# Altium footprint library SOP.PcbLib: 58 footprints (part 2 of 4)
Each footprint in its own frame and in the unit in brackets; x right, y up, seen from the top. Pads: shape width x height; smd on the part's side, far side on the other; paste and mask are expansions set on the pad; w line width, h text height; cw(c..) or ccw(c..) is an arc to the next point about the centre after c.
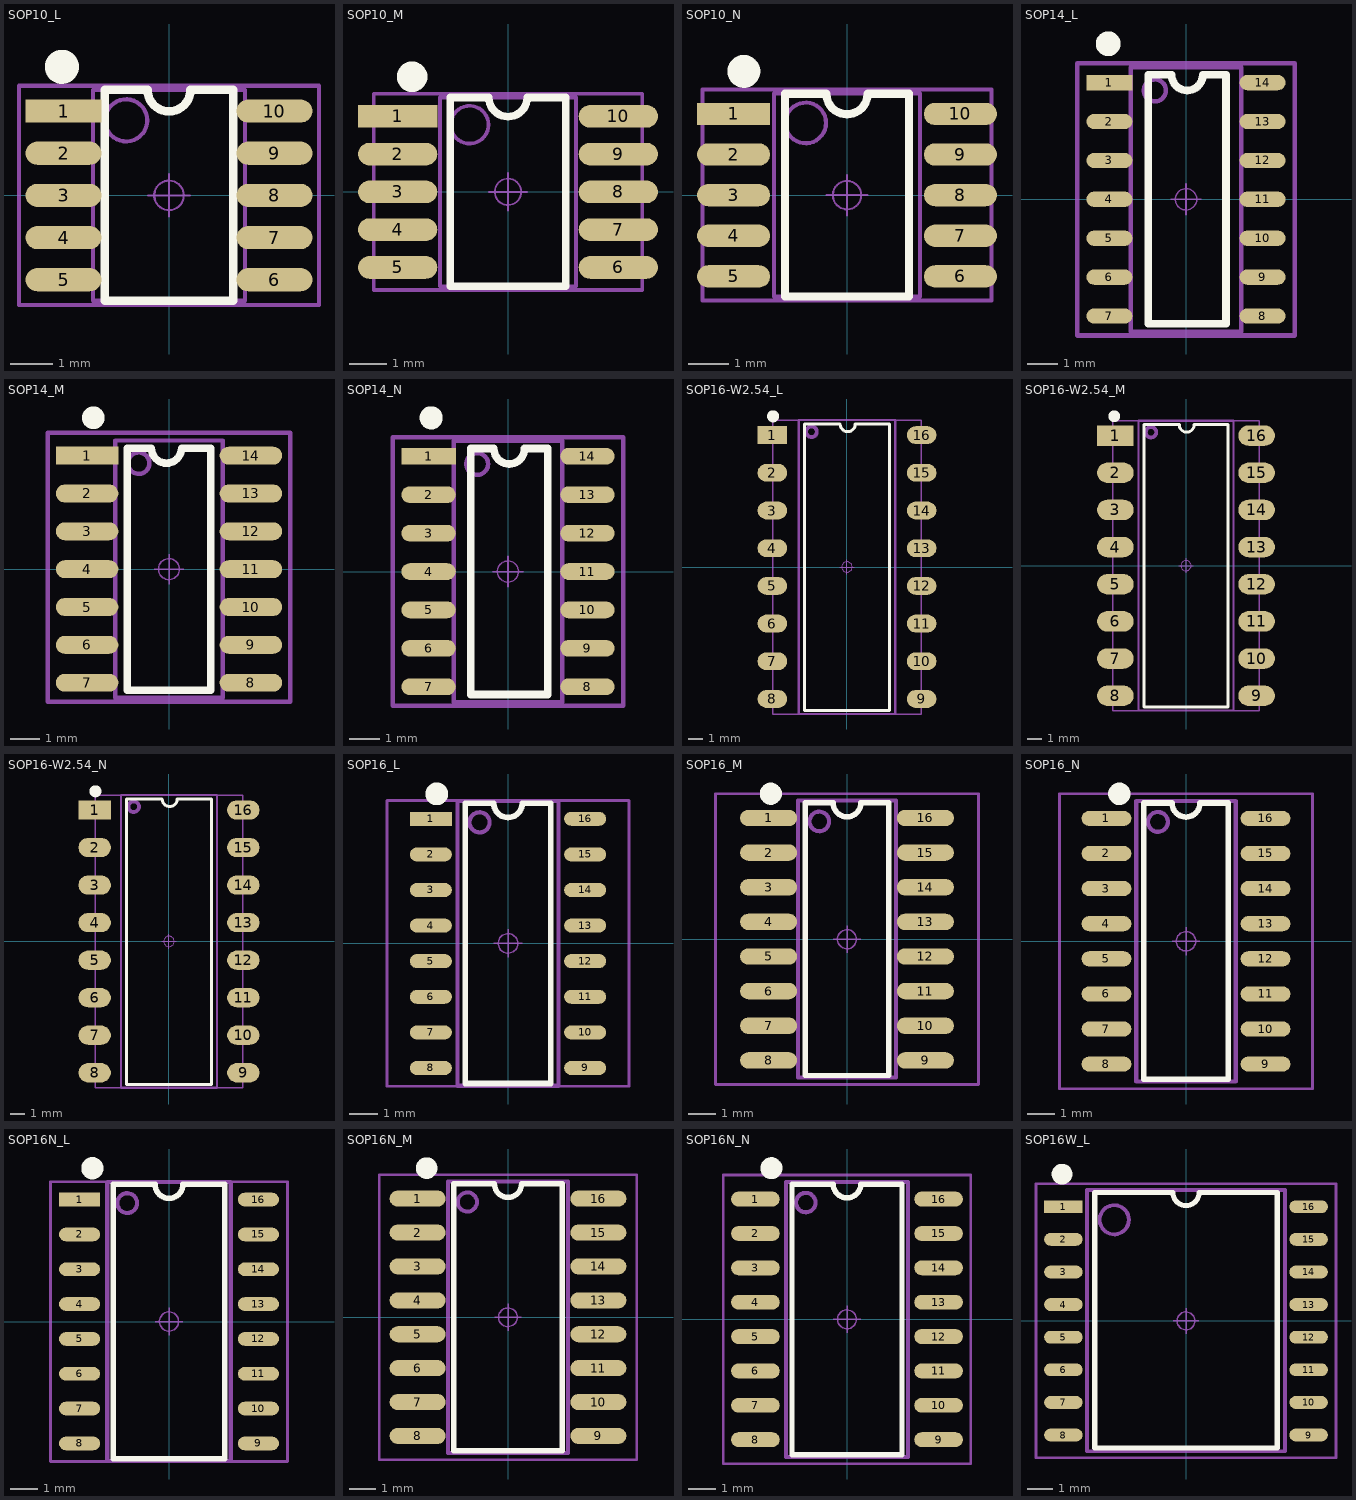
[diagram p1: the footprints below, top view; thin cyan lines are the x and y axes]

## SOP10_L [mm] "4.9*6*1.5mm（长宽高）"
height 1.75
pads (10):
  rect 1.8x0.55 smd: 1(-2.5,2)
  oval 1.8x0.55 smd: 2(-2.5,1) 3(-2.5,0) 4(-2.5,-1) 5(-2.5,-2) 6(2.5,-2) 7(2.5,-1) 8(2.5,0) 9(2.5,1) 10(2.5,2)
Top Overlay:
  circle w0.5: c-2.54,3.048 r0.155
  lines w0.2: -1.524,2.5 -1.524,-2.5 1.524,-2.5 1.524,2.5
  lines w0.203: -1.524,2.5 -0.508,2.5 ccw(c0,2.5) 0,1.992 ccw(c0,2.5) 0.508,2.5 1.524,2.5
Mechanical 13:
  circle w0.1: c-1.016,1.778 r0.5
  lines w0.1: -1.8,-2.5 -1.8,2.5 1.8,2.5 1.8,-2.5 -1.8,-2.5
Mechanical 15:
  circle w0.05: c0,0 r0.35
  lines w0.05: -0.5,0 0.5,0 ; 0,-0.5 0,0.5
  lines w0.1: -3.556,-2.6 -3.556,2.6 3.556,2.6 3.556,-2.6 -3.556,-2.6
3D body "SOP10.STEP": height 1.55, standoff -0.05, extent -3.003,-2.45 3.003,2.45

## SOP10_M [mm] "4.9*6*1.5mm（长宽高）"
height 1.75
pads (10):
  rect 2.1x0.6 smd: 1(-2.921,2)
  oval 2.1x0.6 smd: 2(-2.921,1) 3(-2.921,0) 4(-2.921,-1) 5(-2.921,-2) 6(2.921,-2) 7(2.921,-1) 8(2.921,0) 9(2.921,1) 10(2.921,2)
Top Overlay:
  circle w0.5: c-2.54,3.048 r0.155
  lines w0.2: -1.524,2.5 -1.524,-2.5 1.524,-2.5 1.524,2.5
  lines w0.203: -1.524,2.5 -0.508,2.5 ccw(c0,2.5) 0,1.992 ccw(c0,2.5) 0.508,2.5 1.524,2.5
Mechanical 13:
  circle w0.1: c-1.016,1.778 r0.5
  lines w0.1: -1.8,-2.5 -1.8,2.5 1.8,2.5 1.8,-2.5 -1.8,-2.5
Mechanical 15:
  circle w0.05: c0,0 r0.35
  lines w0.05: -0.5,0 0.5,0 ; 0,-0.5 0,0.5
  lines w0.1: -3.556,-2.6 -3.556,2.6 3.556,2.6 3.556,-2.6 -3.556,-2.6
3D body "SOP10.STEP": height 1.55, standoff -0.05, extent -3.003,-2.45 3.003,2.45

## SOP10_N [mm] "4.9*6*1.5mm（长宽高）"
height 1.75
pads (10):
  rect 1.8x0.55 smd: 1(-2.794,2)
  oval 1.8x0.55 smd: 2(-2.794,1) 3(-2.794,0) 4(-2.794,-1) 5(-2.794,-2) 6(2.794,-2) 7(2.794,-1) 8(2.794,0) 9(2.794,1) 10(2.794,2)
Top Overlay:
  circle w0.5: c-2.54,3.048 r0.155
  lines w0.2: -1.524,2.5 -1.524,-2.5 1.524,-2.5 1.524,2.5
  lines w0.203: -1.524,2.5 -0.508,2.5 ccw(c0,2.5) 0,1.992 ccw(c0,2.5) 0.508,2.5 1.524,2.5
Mechanical 13:
  circle w0.1: c-1.016,1.778 r0.5
  lines w0.1: -1.8,-2.5 -1.8,2.5 1.8,2.5 1.8,-2.5 -1.8,-2.5
Mechanical 15:
  circle w0.05: c0,0 r0.35
  lines w0.05: -0.5,0 0.5,0 ; 0,-0.5 0,0.5
  lines w0.1: -3.556,-2.6 -3.556,2.6 3.556,2.6 3.556,-2.6 -3.556,-2.6
3D body "SOP10.STEP": height 1.55, standoff -0.05, extent -3.003,-2.45 3.003,2.45

## SOP14_L [mm] "8.7*6.2*1.8mm（长宽高）"
pads (14):
  rect 1.5x0.5 smd: 1(-2.5,3.81)
  oval 1.5x0.5 smd: 2(-2.5,2.54) 3(-2.5,1.27) 4(-2.5,0) 5(-2.5,-1.27) 6(-2.5,-2.54) 7(-2.5,-3.81) 8(2.5,-3.81) 9(2.5,-2.54) 10(2.5,-1.27) 11(2.5,0) 12(2.5,1.27) 13(2.5,2.54) 14(2.5,3.81)
Top Overlay:
  circle w0.5: c-2.54,5.08 r0.155
  lines w0.254: -1.23,-4.064 1.31,-4.064 1.31,4.064 0.548,4.064 cw(c0.04,4.064) 0.04,3.556 cw(c0.04,4.064) -0.468,4.064 -1.23,4.064 -1.23,-4.064
Mechanical 13:
  circle w0.15: c-1.016,3.556 r0.359
  lines w0.15: -1.8,-4.318 1.8,-4.318 1.8,4.318 -1.8,4.318 -1.8,-4.318
Mechanical 15:
  circle w0.05: c0,0 r0.35
  lines w0.05: -0.5,0 0.5,0 ; 0,-0.5 0,0.5
  lines w0.15: -3.556,-4.445 -3.556,4.445 3.556,4.445 3.556,-4.445 -3.556,-4.445
3D body "SOP14.STEP": height 1.9, standoff 0, extent -3.003,-4.35 3.003,4.35

## SOP14_M [mm] "8.7*6.2*1.8mm（长宽高）"
pads (14):
  rect 2.1x0.6 smd: 1(-2.75,3.81)
  oval 2.1x0.6 smd: 2(-2.75,2.54) 3(-2.75,1.27) 4(-2.75,0) 5(-2.75,-1.27) 6(-2.75,-2.54) 7(-2.75,-3.81) 8(2.75,-3.81) 9(2.75,-2.54) 10(2.75,-1.27) 11(2.75,0) 12(2.75,1.27) 13(2.75,2.54) 14(2.75,3.81)
Top Overlay:
  circle w0.508: c-2.54,5.08 r0.127
  lines w0.254: -1.397,-4.064 -1.397,4.064 -0.593,4.064 ccw(c-0.085,4.064) -0.085,3.556 ccw(c-0.085,4.064) 0.423,4.064 1.397,4.064 1.397,-4.064 -1.397,-4.064
Mechanical 13:
  circle w0.15: c-1.016,3.556 r0.359
  lines w0.15: -1.8,-4.318 1.8,-4.318 1.8,4.318 -1.8,4.318 -1.8,-4.318
Mechanical 15:
  circle w0.05: c0,0 r0.35
  lines w0.05: -0.5,0 0.5,0 ; 0,-0.5 0,0.5
  lines w0.15: -4.064,-4.445 -4.064,4.572 4.064,4.572 4.064,-4.445 -4.064,-4.445
3D body "SOP14.STEP": height 1.9, standoff 0, extent -3.003,-4.35 3.003,4.35

## SOP14_N [mm] "8.7*6.2*1.8mm（长宽高）"
pads (14):
  rect 1.8x0.55 smd: 1(-2.625,3.81)
  oval 1.8x0.55 smd: 2(-2.625,2.54) 3(-2.625,1.27) 4(-2.625,0) 5(-2.625,-1.27) 6(-2.625,-2.54) 7(-2.625,-3.81) 8(2.625,-3.81) 9(2.625,-2.54) 10(2.625,-1.27) 11(2.625,0) 12(2.625,1.27) 13(2.625,2.54) 14(2.625,3.81)
Top Overlay:
  circle w0.508: c-2.54,5.08 r0.127
  lines w0.254: -1.23,-4.064 -1.23,4.064 -0.468,4.064 ccw(c0.04,4.064) 0.04,3.556 ccw(c0.04,4.064) 0.548,4.064 1.31,4.064 1.31,-4.064 -1.23,-4.064
Mechanical 13:
  circle w0.15: c-1.016,3.556 r0.359
  lines w0.15: -1.8,-4.318 -1.8,4.318 1.8,4.318 1.8,-4.318 -1.8,-4.318
Mechanical 15:
  circle w0.05: c0,0 r0.35
  lines w0.05: -0.5,0 0.5,0 ; 0,-0.5 0,0.5
  lines w0.15: -3.81,-4.445 3.81,-4.445 3.81,4.445 -3.81,4.445 -3.81,-4.445
3D body "SOP14.STEP": height 1.9, standoff 0, extent -3.003,-4.35 3.003,4.35

## SOP16-W2.54_L [mm] "6.5*19.82*3.5mm（长宽高）"
pads (16):
  rect 2x1.2 smd: 1(-5.029,8.89)
  oval 2x1.2 smd: 2(-5.029,6.35) 3(-5.029,3.81) 4(-5.029,1.27) 5(-5.029,-1.27) 6(-5.029,-3.81) 7(-5.029,-6.35) 8(-5.029,-8.89) 9(5.029,-8.89) 10(5.029,-6.35) 11(5.029,-3.81) 12(5.029,-1.27) 13(5.029,1.27) 14(5.029,3.81) 15(5.029,6.35) 16(5.029,8.89)
Top Overlay:
  circle w0.5: c-4.98,10.16 r0.155
  lines w0.2: -2.87,9.632 -2.87,-9.672 2.87,-9.672 2.87,9.632
  lines w0.203: -2.87,9.632 -0.46,9.632 ccw(c0.048,9.632) 0.048,9.124 ccw(c0.048,9.632) 0.556,9.632 2.87,9.632
Mechanical 13:
  circle w0.254: c-2.391,9.119 r0.359
  lines w0.15: -3.25,-9.906 3.25,-9.906 3.25,9.906 -3.25,9.906 -3.25,-9.906
Mechanical 15:
  circle w0.05: c0,0 r0.35
  lines w0.05: -0.5,0 0.5,0 ; 0,-0.5 0,0.5
  lines w0.1: -5.004,-9.906 5.004,-9.906 5.004,9.906 -5.004,9.906 -5.004,-9.906
3D body "SOP16-W2.54.STEP": height 3.82, standoff -0.03, extent -5,-9.91 5,9.91

## SOP16-W2.54_M [mm] "6.5*19.82*3.5mm（长宽高）"
pads (16):
  rect 2.5x1.4 smd: 1(-4.826,8.89)
  oval 2.5x1.4 smd: 2(-4.826,6.35) 3(-4.826,3.81) 4(-4.826,1.27) 5(-4.826,-1.27) 6(-4.826,-3.81) 7(-4.826,-6.35) 8(-4.826,-8.89) 9(4.826,-8.89) 10(4.826,-6.35) 11(4.826,-3.81) 12(4.826,-1.27) 13(4.826,1.27) 14(4.826,3.81) 15(4.826,6.35) 16(4.826,8.89)
Top Overlay:
  circle w0.5: c-4.904,10.211 r0.155
  lines w0.2: -2.87,-9.672 2.87,-9.672 2.87,9.632 ; -2.87,-9.652 -2.87,9.632
  lines w0.203: -2.87,9.632 -0.46,9.632 ccw(c0.048,9.632) 0.048,9.124 ccw(c0.048,9.632) 0.556,9.632 2.87,9.632
Mechanical 13:
  circle w0.254: c-2.391,9.119 r0.359
  lines w0.15: -3.25,-9.906 -3.25,9.906 3.25,9.906 3.25,-9.906 -3.25,-9.906
Mechanical 15:
  circle w0.05: c0,0 r0.35
  lines w0.05: -0.5,0 0.5,0 ; 0,-0.5 0,0.5
  lines w0.1: -5.004,-9.906 -5.004,9.906 5.004,9.906 5.004,-9.906 -5.004,-9.906
3D body "SOP16-W2.54.STEP": height 3.82, standoff -0.03, extent -5,-9.91 5,9.91

## SOP16-W2.54_N [mm] "6.5*19.82*3.5mm（长宽高）"
pads (16):
  rect 2.2x1.3 smd: 1(-5.029,8.89)
  oval 2.2x1.3 smd: 2(-5.029,6.35) 3(-5.029,3.81) 4(-5.029,1.27) 5(-5.029,-1.27) 6(-5.029,-3.81) 7(-5.029,-6.35) 8(-5.029,-8.89) 9(5.029,-8.89) 10(5.029,-6.35) 11(5.029,-3.81) 12(5.029,-1.27) 13(5.029,1.27) 14(5.029,3.81) 15(5.029,6.35) 16(5.029,8.89)
Top Overlay:
  circle w0.5: c-4.98,10.16 r0.155
  lines w0.2: -2.87,9.632 -2.87,-9.672 2.87,-9.672 2.87,9.632
  lines w0.203: -2.87,9.632 -0.46,9.632 ccw(c0.048,9.632) 0.048,9.124 ccw(c0.048,9.632) 0.556,9.632 2.87,9.632
Mechanical 13:
  circle w0.254: c-2.391,9.119 r0.359
  lines w0.15: -3.25,-9.906 -3.25,9.906 3.25,9.906 3.25,-9.906 -3.25,-9.906
Mechanical 15:
  circle w0.05: c0,0 r0.35
  lines w0.05: -0.5,0 0.5,0 ; 0,-0.5 0,0.5
  lines w0.1: -5.004,-9.906 -5.004,9.906 5.004,9.906 5.004,-9.906 -5.004,-9.906
3D body "SOP16-W2.54.STEP": height 3.82, standoff -0.03, extent -5,-9.91 5,9.91

## SOP16_L [mm] "10.3*6.2*1.8mm（长宽高）"
height 1.75
pads (16):
  rect 1.5x0.5 smd: 1(-2.752,4.445)
  oval 1.5x0.5 smd: 2(-2.752,3.175) 3(-2.752,1.905) 4(-2.752,0.635) 5(-2.752,-0.635) 6(-2.752,-1.905) 7(-2.752,-3.175) 8(-2.752,-4.445) 9(2.752,-4.445) 10(2.752,-3.175) 11(2.752,-1.905) 12(2.752,-0.635) 13(2.752,0.635) 14(2.752,1.905) 15(2.752,3.175) 16(2.752,4.445)
Top Overlay:
  circle w0.5: c-2.54,5.334 r0.155
  lines w0.2: -1.524,5 -1.524,-5 1.524,-5 1.524,5
  lines w0.203: -1.524,5 -0.508,5 ccw(c0,5) 0,4.492 ccw(c0,5) 0.508,5 1.524,5
Mechanical 13:
  circle w0.15: c-1.016,4.318 r0.359
  lines w0.15: -1.8,-5.08 -1.8,5.08 1.8,5.08 1.8,-5.08 -1.8,-5.08
Mechanical 15:
  circle w0.05: c0,0 r0.35
  lines w0.05: -0.5,0 0.5,0 ; 0,-0.5 0,0.5
  lines w0.1: -4.318,-5.1 4.318,-5.1 4.318,5.1 -4.318,5.1 -4.318,-5.1
3D body "SOP16.STEP": height 1.9, standoff 0, extent -3.003,-5 3.003,5

## SOP16_M [mm] "10.3*6.2*1.8mm（长宽高）"
height 1.75
pads (16):
  oval 2.1x0.6 smd: 1(-2.875,4.445) 2(-2.875,3.175) 3(-2.875,1.905) 4(-2.875,0.635) 5(-2.875,-0.635) 6(-2.875,-1.905) 7(-2.875,-3.175) 8(-2.875,-4.445) 9(2.875,-4.445) 10(2.875,-3.175) 11(2.875,-1.905) 12(2.875,-0.635) 13(2.875,0.635) 14(2.875,1.905) 15(2.875,3.175) 16(2.875,4.445)
Top Overlay:
  circle w0.5: c-2.794,5.334 r0.155
  lines w0.2: -1.524,5 -1.524,-5 1.524,-5 1.524,5
  lines w0.203: -1.524,5 -0.508,5 ccw(c0,5) 0,4.492 ccw(c0,5) 0.508,5 1.524,5
Mechanical 13:
  circle w0.15: c-1.016,4.318 r0.359
  lines w0.15: -1.8,-5.08 1.8,-5.08 1.8,5.08 -1.8,5.08 -1.8,-5.08
Mechanical 15:
  circle w0.05: c0,0 r0.35
  lines w0.05: -0.5,0 0.5,0 ; 0,-0.5 0,0.5
  lines w0.1: -4.826,-5.334 -4.826,5.334 4.826,5.334 4.826,-5.334 -4.826,-5.334
3D body "SOP16.STEP": height 1.9, standoff 0, extent -3.003,-5 3.003,5

## SOP16_N [mm] "10.3*6.2*1.8mm（长宽高）"
height 1.75
pads (16):
  oval 1.8x0.55 smd: 1(-2.877,4.445) 2(-2.877,3.175) 3(-2.877,1.905) 4(-2.877,0.635) 5(-2.877,-0.635) 6(-2.877,-1.905) 7(-2.877,-3.175) 8(-2.877,-4.445) 9(2.877,-4.445) 10(2.877,-3.175) 11(2.877,-1.905) 12(2.877,-0.635) 13(2.877,0.635) 14(2.877,1.905) 15(2.877,3.175) 16(2.877,4.445)
Top Overlay:
  circle w0.5: c-2.413,5.334 r0.155
  lines w0.2: -1.524,5 -1.524,-5 1.524,-5 1.524,5
  lines w0.203: -1.524,5 -0.508,5 ccw(c0,5) 0,4.492 ccw(c0,5) 0.508,5 1.524,5
Mechanical 13:
  circle w0.15: c-1.016,4.318 r0.359
  lines w0.15: -1.8,-5.08 1.8,-5.08 1.8,5.08 -1.8,5.08 -1.8,-5.08
Mechanical 15:
  circle w0.05: c0,0 r0.35
  lines w0.05: -0.5,0 0.5,0 ; 0,-0.5 0,0.5
  lines w0.1: -4.572,-5.334 4.572,-5.334 4.572,5.334 -4.572,5.334 -4.572,-5.334
3D body "SOP16.STEP": height 1.9, standoff 0, extent -3.003,-5 3.003,5

## SOP16N_L [mm] "10.3*7*1.8mm（长宽高）"
height 1.75
pads (16):
  rect 1.5x0.5 smd: 1(-3.26,4.445)
  oval 1.5x0.5 smd: 2(-3.26,3.175) 3(-3.26,1.905) 4(-3.26,0.635) 5(-3.26,-0.635) 6(-3.26,-1.905) 7(-3.26,-3.175) 8(-3.26,-4.445) 9(3.26,-4.445) 10(3.26,-3.175) 11(3.26,-1.905) 12(3.26,-0.635) 13(3.26,0.635) 14(3.26,1.905) 15(3.26,3.175) 16(3.26,4.445)
Top Overlay:
  circle w0.5: c-2.794,5.588 r0.155
  lines w0.2: -2.032,5 -2.032,-5 2.032,-5 2.032,5
  lines w0.203: -2.032,5 -0.508,5 ccw(c0,5) 0,4.492 ccw(c0,5) 0.508,5 2.032,5
Mechanical 13:
  circle w0.15: c-1.524,4.318 r0.359
  lines w0.15: -2.25,-5.08 -2.25,5.08 2.25,5.08 2.25,-5.08 -2.25,-5.08
Mechanical 15:
  circle w0.05: c0,0 r0.35
  lines w0.05: -0.5,0 0.5,0 ; 0,-0.5 0,0.5
  lines w0.1: -4.318,-5.1 4.318,-5.1 4.318,5.1 -4.318,5.1 -4.318,-5.1
3D body "SOP16N.STEP": height 1.9, standoff 0, extent -3.503,-5.25 3.503,5.25

## SOP16N_M [mm] "10.3*7*1.8mm（长宽高）"
height 1.75
pads (16):
  oval 2.1x0.6 smd: 1(-3.383,4.445) 2(-3.383,3.175) 3(-3.383,1.905) 4(-3.383,0.635) 5(-3.383,-0.635) 6(-3.383,-1.905) 7(-3.383,-3.175) 8(-3.383,-4.445) 9(3.383,-4.445) 10(3.383,-3.175) 11(3.383,-1.905) 12(3.383,-0.635) 13(3.383,0.635) 14(3.383,1.905) 15(3.383,3.175) 16(3.383,4.445)
Top Overlay:
  circle w0.5: c-3.048,5.588 r0.155
  lines w0.2: -2.032,5 -2.032,-5 2.032,-5 2.032,5
  lines w0.203: -2.032,5 -0.508,5 ccw(c0,5) 0,4.492 ccw(c0,5) 0.508,5 2.032,5
Mechanical 13:
  circle w0.15: c-1.524,4.318 r0.359
  lines w0.15: -2.25,-5.08 2.25,-5.08 2.25,5.08 -2.25,5.08 -2.25,-5.08
Mechanical 15:
  circle w0.05: c0,0 r0.35
  lines w0.05: -0.5,0 0.5,0 ; 0,-0.5 0,0.5
  lines w0.1: -4.826,-5.334 -4.826,5.334 4.826,5.334 4.826,-5.334 -4.826,-5.334
3D body "SOP16N.STEP": height 1.9, standoff 0, extent -3.503,-5.25 3.503,5.25

## SOP16N_N [mm] "10.3*7*1.8mm（长宽高）"
height 1.75
pads (16):
  oval 1.8x0.55 smd: 1(-3.385,4.445) 2(-3.385,3.175) 3(-3.385,1.905) 4(-3.385,0.635) 5(-3.385,-0.635) 6(-3.385,-1.905) 7(-3.385,-3.175) 8(-3.385,-4.445) 9(3.385,-4.445) 10(3.385,-3.175) 11(3.385,-1.905) 12(3.385,-0.635) 13(3.385,0.635) 14(3.385,1.905) 15(3.385,3.175) 16(3.385,4.445)
Top Overlay:
  circle w0.5: c-2.794,5.588 r0.155
  lines w0.2: -2.032,5 -2.032,-5 2.032,-5 2.032,5
  lines w0.203: -2.032,5 -0.508,5 ccw(c0,5) 0,4.492 ccw(c0,5) 0.508,5 2.032,5
Mechanical 13:
  circle w0.15: c-1.524,4.318 r0.359
  lines w0.15: -2.25,-5.08 2.25,-5.08 2.25,5.08 -2.25,5.08 -2.25,-5.08
Mechanical 15:
  circle w0.05: c0,0 r0.35
  lines w0.05: -0.5,0 0.5,0 ; 0,-0.5 0,0.5
  lines w0.1: -4.572,-5.334 4.572,-5.334 4.572,5.334 -4.572,5.334 -4.572,-5.334
3D body "SOP16N.STEP": height 1.9, standoff 0, extent -3.503,-5.25 3.503,5.25

## SOP16W_L [mm] "10.3*10.3*2.6mm（长宽高）"
height 1.75
pads (16):
  rect 1.5x0.5 smd: 1(-4.775,4.445)
  oval 1.5x0.5 smd: 2(-4.775,3.175) 3(-4.775,1.905) 4(-4.775,0.635) 5(-4.775,-0.635) 6(-4.775,-1.905) 7(-4.775,-3.175) 8(-4.775,-4.445) 9(4.775,-4.445) 10(4.775,-3.175) 11(4.775,-1.905) 12(4.775,-0.635) 13(4.775,0.635) 14(4.775,1.905) 15(4.775,3.175) 16(4.775,4.445)
Top Overlay:
  circle w0.5: c-4.826,5.715 r0.155
  lines w0.2: -3.556,5 -3.556,-4.953 3.556,-4.953 3.556,5
  lines w0.203: -3.556,5 -0.508,5 ccw(c0,5) 0,4.492 ccw(c0,5) 0.508,5 3.556,5
Mechanical 13:
  circle w0.15: c-2.794,3.937 r0.568
  lines w0.15: -3.85,-5.08 -3.85,5.1 3.85,5.1 3.85,-5.08 -3.85,-5.08
Mechanical 15:
  circle w0.05: c0,0 r0.35
  lines w0.05: -0.5,0 0.5,0 ; 0,-0.5 0,0.5
  lines w0.1: -5.842,-5.334 5.842,-5.334 5.842,5.334 -5.842,5.334 -5.842,-5.334
3D body "SOP16W.STEP": height 2.7, standoff 0, extent -5.153,-5.15 5.153,5.15